# Altium footprint library LM2622.PcbLib: 1 footprints
Each footprint in its own frame and in the unit in brackets; x right, y up, seen from the top. Pads: shape width x height; smd on the part's side, far side on the other; paste and mask are expansions set on the pad; w line width, h text height; cw(c..) or ccw(c..) is an arc to the next point about the centre after c.
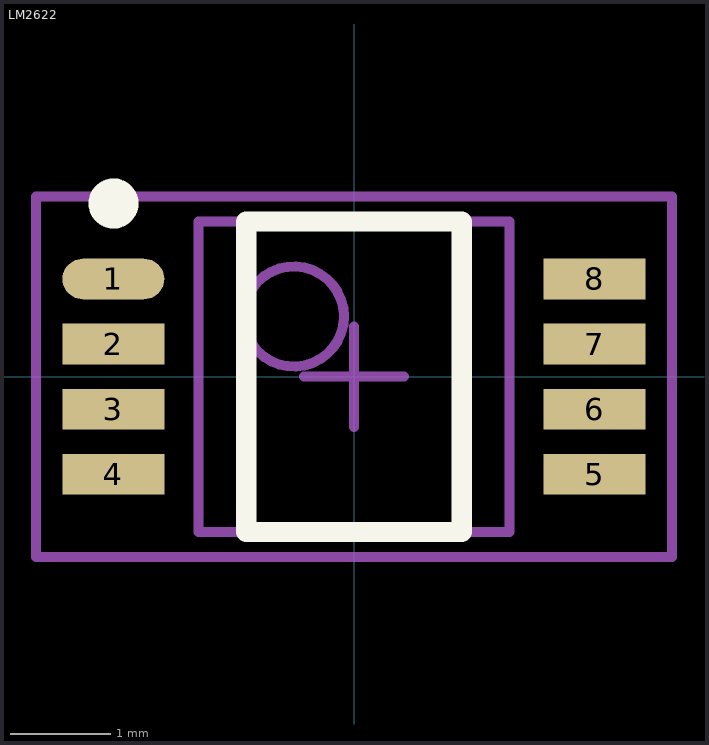
[diagram p0: the footprint, top view; thin cyan lines are the x and y axes]

## LM2622 [mm]
height 1.092
pads (8):
  oval 1.016x0.406 smd: 1(-2.401,0.975)
  rect 1.016x0.406 smd: 2(-2.401,0.325) 3(-2.401,-0.325) 4(-2.401,-0.975) 5(2.401,-0.975) 6(2.401,-0.325) 7(2.401,0.325) 8(2.401,0.975)
Top Overlay:
  circle w0.25: c-2.401,1.728 r0.125
  lines w0.2: -1.075,-1.55 1.075,-1.55 1.075,1.55 -1.075,1.55 -1.075,-1.55
Mechanical 13:
  circle w0.1: c-0.6,0.6 r0.5
  lines w0.1: -1.55,-1.55 1.55,-1.55 1.55,1.55 -1.55,1.55 -1.55,-1.55
Mechanical 15:
  lines w0.1: -0.5,0 0.5,0 ; 0,-0.5 0,0.5 ; -3.175,-1.8 3.175,-1.8 3.175,1.8 -3.175,1.8 -3.175,-1.8
3D body: height 1.09, standoff 0.15, extent -1.55,-1.55 1.55,1.55